# EAGLE library part MC9S08QG8-16* (library freescale-hcs08)
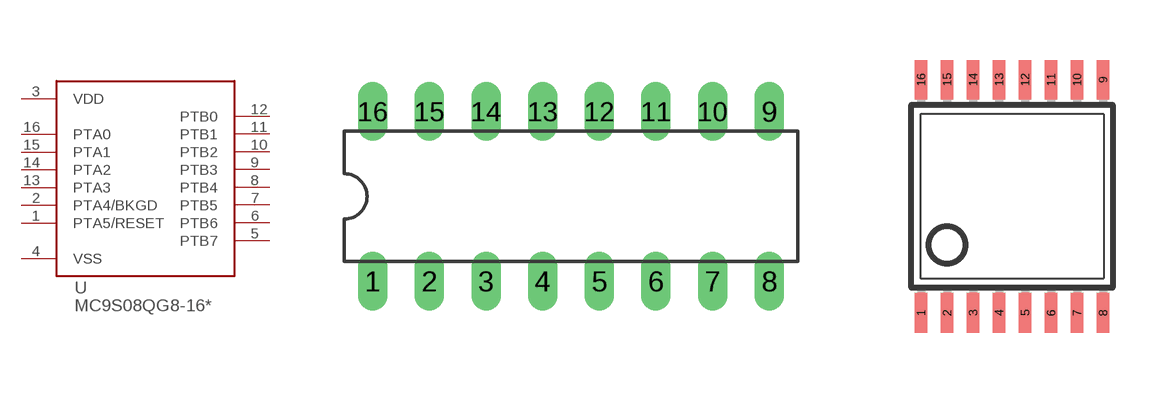
[diagram p1: symbol with the pads of DIL16; footprints DIL16, TSSOP16]

Designator prefix -

## MC9S08QG8-16PBE  [DIL16]
1  PTA5/RESET
2  PTA4/BKGD
3  VDD
4  VSS
5  PTB7
6  PTB6
7  PTB5
8  PTB4
9  PTB3
10  PTB2
11  PTB1
12  PTB0
13  PTA3
14  PTA2
15  PTA1
16  PTA0

## MC9S08QG8-16DTE  [TSSOP16]
Pads as for DIL16

## Footprint DIL16 (pad centres in mm)
Dual In Line Package
drill 0.813 long: 1 -8.89,-3.81; 2 -6.35,-3.81; 3 -3.81,-3.81; 4 -1.27,-3.81; 5 1.27,-3.81; 6 3.81,-3.81; 7 6.35,-3.81; 8 8.89,-3.81; 9 8.89,3.81; 10 6.35,3.81; 11 3.81,3.81; 12 1.27,3.81; 13 -1.27,3.81; 14 -3.81,3.81; 15 -6.35,3.81; 16 -8.89,3.81

## Footprint TSSOP16 (pad centres in mm)
Thin Shrink Small Outline Plastic 16 MAX3223-MAX3243.pdf
smd 0.305 x 0.991: 1 -2.275,-2.918; 2 -1.625,-2.918; 3 -0.975,-2.918; 4 -0.325,-2.918; 5 0.325,-2.918; 6 0.975,-2.918; 7 1.625,-2.918; 8 2.275,-2.918; 9 2.275,2.918; 10 1.625,2.918; 11 0.975,2.918; 12 0.325,2.918; 13 -0.325,2.918; 14 -0.975,2.918; 15 -1.625,2.918; 16 -2.275,2.918